# Altium schematic symbol library IND,2.2uH,23.8A,Wirewound,Thru.Schlib: 1 symbol
Pins are listed as number, name and electrical type; pins without a type are passive.

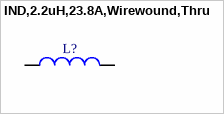
[diagram p0: symbol IND,2.2uH,23.8A,Wirewound,Thru]

## IND,2.2uH,23.8A,Wirewound,Thru
designator L?
pins: 1, 2